# Altium schematic symbol library ARRAY_0603_4.SchLib: 1 symbol
Pins are listed as number, name and electrical type; pins without a type are passive.

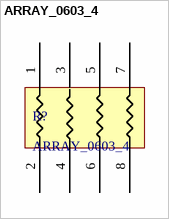
[diagram p0: symbol ARRAY_0603_4]

## ARRAY_0603_4
designator R?
footprint ARRAY_0603_4PIN
pins: 1, 2, 3, 4, 5, 6, 7, 8